# Altium schematic symbol library JST-3.SchLib: 1 symbol
Pins are listed as number, name and electrical type; pins without a type are passive.

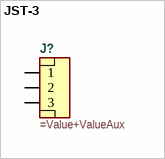
[diagram p0: symbol JST-3]

## JST-3
designator J?
=Description
pins: 1, 2, 3